# EAGLE library part USB-B (library Connector)
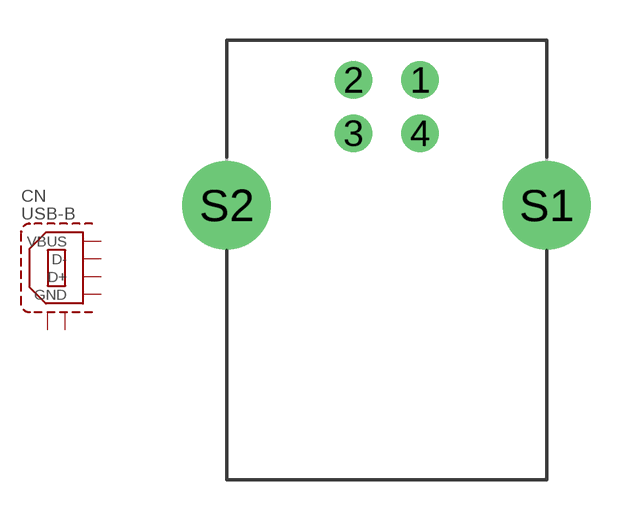
[diagram p1: symbol with the pads of USB-B; footprint USB-B]

Designator prefix CN

## USB-B  [USB-B]
1  VBUS  pas
2  D-  pas
3  D+  pas
4  GND  pas
S1  S1  pas
S2  S2  pas

## Footprint USB-B (pad centres in mm)
drill 0.9: 1 1.25,4.7; 2 -1.25,4.7; 3 -1.25,2.7; 4 1.25,2.7
drill 2.3 pad 3.1: S1 6,0; S2 -6,0